# EAGLE library part 6500/1 (library ML497A)
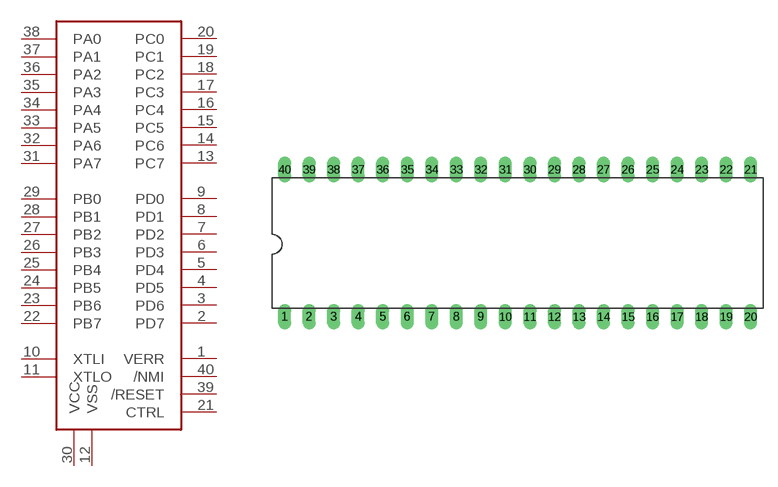
[diagram p6: symbol with the pads of DIL-40; footprint DIL-40]

Designator prefix -

## 6500/1  [DIL-40]
1  VERR
2  PD7
3  PD6
4  PD5
5  PD4
6  PD3
7  PD2
8  PD1
9  PD0
10  XTLI
11  XTLO
12  VSS
13  PC7
14  PC6
15  PC5
16  PC4
17  PC3
18  PC2
19  PC1
20  PC0
21  CTRL
22  PB7
23  PB6
24  PB5
25  PB4
26  PB3
27  PB2
28  PB1
29  PB0
30  VCC
31  PA7
32  PA6
33  PA5
34  PA4
35  PA3
36  PA2
37  PA1
38  PA0
39  /RESET
40  /NMI

## Footprint DIL-40 (pad centres in mm)
drill 0.813 long: 1 -22.86,-7.62; 2 -20.32,-7.62; 3 -17.78,-7.62; 4 -15.24,-7.62; 5 -12.7,-7.62; 6 -10.16,-7.62; 7 -7.62,-7.62; 8 -5.08,-7.62; 9 -2.54,-7.62; 10 0,-7.62; 11 2.54,-7.62; 12 5.08,-7.62; 13 7.62,-7.62; 14 10.16,-7.62; 15 12.7,-7.62; 16 15.24,-7.62; 17 17.78,-7.62; 18 20.32,-7.62; 19 22.86,-7.62; 20 25.4,-7.62; 21 25.4,7.62; 22 22.86,7.62; 23 20.32,7.62; 24 17.78,7.62; 25 15.24,7.62; 26 12.7,7.62; 27 10.16,7.62; 28 7.62,7.62; 29 5.08,7.62; 30 2.54,7.62; 31 0,7.62; 32 -2.54,7.62; 33 -5.08,7.62; 34 -7.62,7.62; 35 -10.16,7.62; 36 -12.7,7.62; 37 -15.24,7.62; 38 -17.78,7.62; 39 -20.32,7.62; 40 -22.86,7.62